# EAGLE library part OSTTH110160 (library con-ost)
5mm Terminal Header
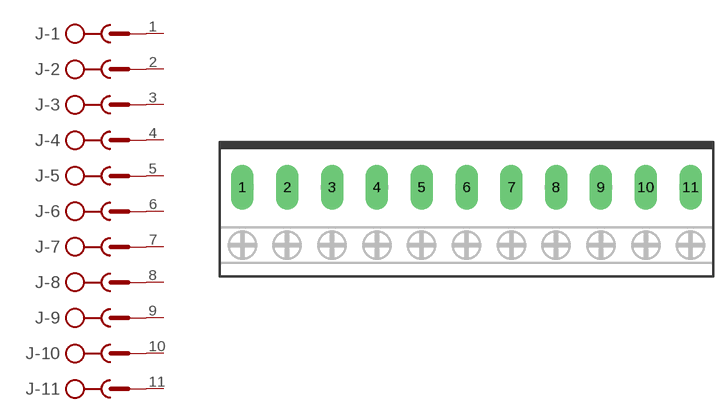
[diagram p16: symbol with the pads of EDSTL130-11; footprint EDSTL130-11]

Designator prefix J; gates -1=SK -2=SK -3=SK -4=SK -5=SK -6=SK -7=SK -8=SK -9=SK -10=SK -11=SK

## OSTTH110160  [EDSTL130-11]
1  -1:SK  pas
2  -2:SK  pas
3  -3:SK  pas
4  -4:SK  pas
5  -5:SK  pas
6  -6:SK  pas
7  -7:SK  pas
8  -8:SK  pas
9  -9:SK  pas
10  -10:SK  pas
11  -11:SK  pas

## Footprint EDSTL130-11 (pad centres in mm)
5mm Pin Header for pluggable terminal blocks mating connector OSTTHXX0160
drill 1.676 long: 1 -25,0; 2 -20,0; 3 -15,0; 4 -10,0; 5 -5,0; 6 0,0; 7 5,0; 8 10,0; 9 15,0; 10 20,0; 11 25,0